# EAGLE library part RJ45-MJ88-BX11-RVSL2 (library Connector )
Modular Jack 8P8C,R/A,With LED
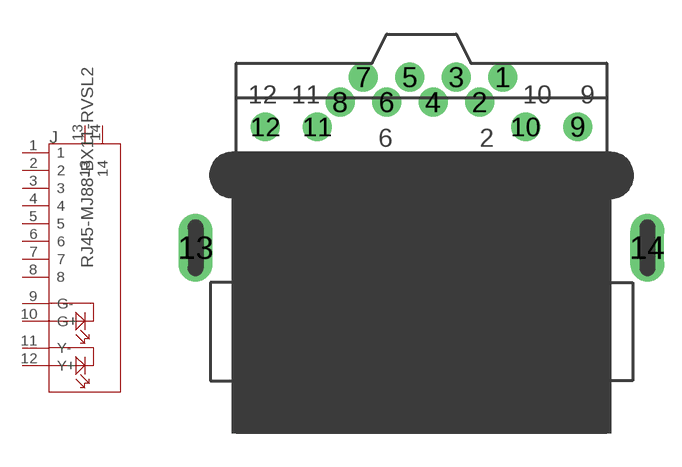
[diagram p5: symbol with the pads of RJ45-MJ88-BX11-RVSL2; footprint RJ45-MJ88-BX11-RVSL2]

Designator prefix J

## RJ45-MJ88-BX11-RVSL2  [RJ45-MJ88-BX11-RVSL2]
1  1
2  2
3  3
4  4
5  5
6  6
7  7
8  8
9  G-
10  G+
11  Y-
12  Y+
13  13
14  14

## Footprint RJ45-MJ88-BX11-RVSL2 (pad centres in mm)
drill 0.762 pad 1.27: 1 3.57,7.5; 2 2.55,6.4; 3 1.53,7.5; 4 0.51,6.4; 5 -0.51,7.5; 6 -1.53,6.4; 7 -2.55,7.5; 8 -3.57,6.4; 9 6.86,5.32; 10 4.57,5.32; 11 -4.57,5.32; 12 -6.86,5.32
drill 0.6 pad 1.5 long: 13 -9.92,0; 14 9.92,0